# Altium footprint library PCB1.PcbLib: 2 footprints
Each footprint in its own frame and in the unit in brackets; x right, y up, seen from the top. Pads: shape width x height; smd on the part's side, far side on the other; paste and mask are expansions set on the pad; w line width, h text height; cw(c..) or ccw(c..) is an arc to the next point about the centre after c.
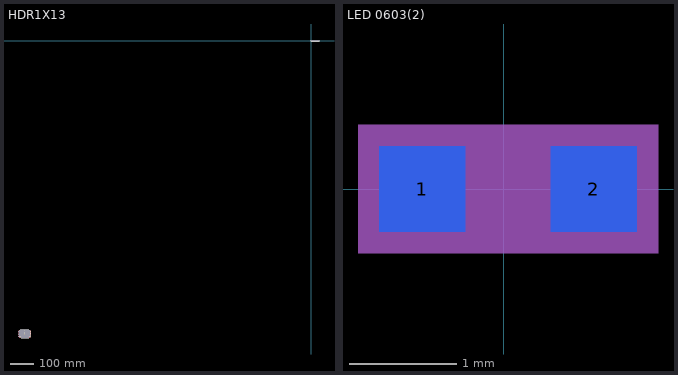
[diagram p0: the footprints below, top view; thin cyan lines are the x and y axes]

## HDR1X13 [mm] "Connector; Header; 13 Position"
pads (327):
  rect 0.8x0.8 smd rot 135: 1(-1232.158,-1241.616) 1(-1232.158,-1247.616) 1(-1232.158,-1238.616) 1(-1232.158,-1235.616) 1(-1232.158,-1232.616) 1(-1232.158,-1229.616) 1(-1232.158,-1226.616) 1(-1232.158,-1223.616) 1(-1232.158,-1244.616) 1(-1229.158,-1241.616) 1(-1229.158,-1247.616) 1(-1229.158,-1238.616) 1(-1229.158,-1235.616) 1(-1229.158,-1232.616) 1(-1229.158,-1229.616) 1(-1229.158,-1226.616) 1(-1229.158,-1223.616) 1(-1229.158,-1244.616) 1(-1226.158,-1241.616) 1(-1226.158,-1247.616) 1(-1226.158,-1238.616) 1(-1226.158,-1235.616) 1(-1226.158,-1232.616) 1(-1226.158,-1229.616) 1(-1226.158,-1226.616) 1(-1226.158,-1223.616) 1(-1226.158,-1244.616) 1(-1223.158,-1241.616) 1(-1223.158,-1247.616) 1(-1223.158,-1238.616) 1(-1223.158,-1235.616) 1(-1223.158,-1232.616) 1(-1223.158,-1229.616) 1(-1223.158,-1226.616) 1(-1223.158,-1223.616) 1(-1223.158,-1244.616) 1(-1220.158,-1241.616) 1(-1220.158,-1247.616) 1(-1220.158,-1238.616) 1(-1220.158,-1235.616) 1(-1220.158,-1232.616) 1(-1220.158,-1229.616) 1(-1220.158,-1226.616) 1(-1220.158,-1223.616) 1(-1220.158,-1244.616) 1(-1217.158,-1241.616) 1(-1217.158,-1247.616) 1(-1217.158,-1238.616) 1(-1217.158,-1235.616) 1(-1217.158,-1232.616) 1(-1217.158,-1229.616) 1(-1217.158,-1226.616) 1(-1217.158,-1223.616) 1(-1217.158,-1244.616) 1(-1214.158,-1241.616) 1(-1214.158,-1247.616) 1(-1214.158,-1238.616) 1(-1214.158,-1235.616) 1(-1214.158,-1232.616) 1(-1214.158,-1229.616) 1(-1214.158,-1226.616) 1(-1214.158,-1223.616) 1(-1214.158,-1244.616) 1(-1211.158,-1241.616) 1(-1211.158,-1247.616) 1(-1211.158,-1238.616) 1(-1211.158,-1235.616) 1(-1211.158,-1232.616) 1(-1211.158,-1229.616) 1(-1211.158,-1226.616) 1(-1211.158,-1223.616) 1(-1211.158,-1244.616) 1(-1208.158,-1241.616) 1(-1208.158,-1247.616) 1(-1208.158,-1238.616) 1(-1208.158,-1235.616) 1(-1208.158,-1232.616) 1(-1208.158,-1229.616) 1(-1208.158,-1226.616) 1(-1208.158,-1223.616) 1(-1208.158,-1244.616) 1(-1205.158,-1241.616) 1(-1205.158,-1247.616) 1(-1205.158,-1238.616) 1(-1205.158,-1235.616) 1(-1205.158,-1232.616) 1(-1205.158,-1229.616) 1(-1205.158,-1226.616) 1(-1205.158,-1223.616) 1(-1205.158,-1244.616) 1(-1202.158,-1241.616) 1(-1202.158,-1247.616) 1(-1202.158,-1238.616) 1(-1202.158,-1235.616) 1(-1202.158,-1232.616) 1(-1202.158,-1229.616) 1(-1202.158,-1226.616) 1(-1202.158,-1223.616) 1(-1202.158,-1244.616) 1(-1199.158,-1241.616) 1(-1199.158,-1247.616) 1(-1199.158,-1238.616) 1(-1199.158,-1235.616) 1(-1199.158,-1232.616) 1(-1199.158,-1229.616) 1(-1199.158,-1226.616) 1(-1199.158,-1223.616) 1(-1199.158,-1244.616) 1(-1196.158,-1241.616) 1(-1196.158,-1247.616) 1(-1196.158,-1238.616) 1(-1196.158,-1235.616) 1(-1196.158,-1232.616) 1(-1196.158,-1229.616) 1(-1196.158,-1226.616) 1(-1196.158,-1223.616) 1(-1196.158,-1244.616) 1(-1193.158,-1241.616) 1(-1193.158,-1247.616) 1(-1193.158,-1238.616) 1(-1193.158,-1235.616) 1(-1193.158,-1232.616) 1(-1193.158,-1229.616) 1(-1193.158,-1226.616) 1(-1193.158,-1223.616) 1(-1193.158,-1244.616) 1(-1190.158,-1241.616) 1(-1190.158,-1247.616) 1(-1190.158,-1238.616) 1(-1190.158,-1235.616) 1(-1190.158,-1232.616) 1(-1190.158,-1229.616) 1(-1190.158,-1226.616) 1(-1190.158,-1223.616) 1(-1190.158,-1244.616) 1(-1187.158,-1241.616) 1(-1187.158,-1247.616) 1(-1187.158,-1238.616) 1(-1187.158,-1235.616) 1(-1187.158,-1232.616) 1(-1187.158,-1229.616) 1(-1187.158,-1226.616) 1(-1187.158,-1223.616) 1(-1187.158,-1244.616) 2(-1233.29,-1236.748) 2(-1233.29,-1248.748) 2(-1233.29,-1245.748) 2(-1233.29,-1242.748) 2(-1233.29,-1233.748) 2(-1233.29,-1230.748) 2(-1233.29,-1227.748) 2(-1233.29,-1224.748) 2(-1233.29,-1239.748) 2(-1230.29,-1236.748) 2(-1230.29,-1248.748) 2(-1230.29,-1245.748) 2(-1230.29,-1242.748) 2(-1230.29,-1233.748) 2(-1230.29,-1230.748) 2(-1230.29,-1227.748) 2(-1230.29,-1224.748) 2(-1230.29,-1239.748) 2(-1227.29,-1236.748) 2(-1227.29,-1248.748) 2(-1227.29,-1245.748) 2(-1227.29,-1242.748) 2(-1227.29,-1233.748) 2(-1227.29,-1230.748) 2(-1227.29,-1227.748) 2(-1227.29,-1224.748) 2(-1227.29,-1239.748) 2(-1224.29,-1236.748) 2(-1224.29,-1248.748) 2(-1224.29,-1245.748) 2(-1224.29,-1242.748) 2(-1224.29,-1233.748) 2(-1224.29,-1230.748) 2(-1224.29,-1227.748) 2(-1224.29,-1224.748) 2(-1224.29,-1239.748) 2(-1221.29,-1236.748) 2(-1221.29,-1248.748) 2(-1221.29,-1245.748) 2(-1221.29,-1242.748) 2(-1221.29,-1233.748) 2(-1221.29,-1230.748) 2(-1221.29,-1227.748) 2(-1221.29,-1224.748) 2(-1221.29,-1239.748) 2(-1218.29,-1236.748) 2(-1218.29,-1248.748) 2(-1218.29,-1245.748) 2(-1218.29,-1242.748) 2(-1218.29,-1233.748) 2(-1218.29,-1230.748) 2(-1218.29,-1227.748) 2(-1218.29,-1224.748) 2(-1218.29,-1239.748) 2(-1215.29,-1236.748) 2(-1215.29,-1248.748) 2(-1215.29,-1245.748) 2(-1215.29,-1242.748) 2(-1215.29,-1233.748) 2(-1215.29,-1230.748) 2(-1215.29,-1227.748) 2(-1215.29,-1224.748) 2(-1215.29,-1239.748) 2(-1212.29,-1236.748) 2(-1212.29,-1248.748) 2(-1212.29,-1245.748) 2(-1212.29,-1242.748) 2(-1212.29,-1233.748) 2(-1212.29,-1230.748) 2(-1212.29,-1227.748) 2(-1212.29,-1224.748) 2(-1212.29,-1239.748) 2(-1209.29,-1236.748) 2(-1209.29,-1248.748) 2(-1209.29,-1245.748) 2(-1209.29,-1242.748) 2(-1209.29,-1233.748) 2(-1209.29,-1230.748) 2(-1209.29,-1227.748) 2(-1209.29,-1224.748) 2(-1209.29,-1239.748) 2(-1206.29,-1236.748) 2(-1206.29,-1248.748) 2(-1206.29,-1245.748) 2(-1206.29,-1242.748) 2(-1206.29,-1233.748) 2(-1206.29,-1230.748) 2(-1206.29,-1227.748) 2(-1206.29,-1224.748) 2(-1206.29,-1239.748) 2(-1203.29,-1236.748) 2(-1203.29,-1248.748) 2(-1203.29,-1245.748) 2(-1203.29,-1242.748) 2(-1203.29,-1233.748) 2(-1203.29,-1230.748) 2(-1203.29,-1227.748) 2(-1203.29,-1224.748) 2(-1203.29,-1239.748) 2(-1200.29,-1236.748) 2(-1200.29,-1248.748) 2(-1200.29,-1245.748) 2(-1200.29,-1242.748) 2(-1200.29,-1233.748) 2(-1200.29,-1230.748) 2(-1200.29,-1227.748) 2(-1200.29,-1224.748) 2(-1200.29,-1239.748) 2(-1197.29,-1236.748) 2(-1197.29,-1248.748) 2(-1197.29,-1245.748) 2(-1197.29,-1242.748) 2(-1197.29,-1233.748) 2(-1197.29,-1230.748) 2(-1197.29,-1227.748) 2(-1197.29,-1224.748) 2(-1197.29,-1239.748) 2(-1194.29,-1236.748) 2(-1194.29,-1248.748) 2(-1194.29,-1245.748) 2(-1194.29,-1242.748) 2(-1194.29,-1233.748) 2(-1194.29,-1230.748) 2(-1194.29,-1227.748) 2(-1194.29,-1224.748) 2(-1194.29,-1239.748) 2(-1191.29,-1236.748) 2(-1191.29,-1248.748) 2(-1191.29,-1245.748) 2(-1191.29,-1242.748) 2(-1191.29,-1233.748) 2(-1191.29,-1230.748) 2(-1191.29,-1227.748) 2(-1191.29,-1224.748) 2(-1191.29,-1239.748) 2(-1188.29,-1236.748) 2(-1188.29,-1248.748) 2(-1188.29,-1245.748) 2(-1188.29,-1242.748) 2(-1188.29,-1233.748) 2(-1188.29,-1230.748) 2(-1188.29,-1227.748) 2(-1188.29,-1224.748) 2(-1188.29,-1239.748)
  rect 1.5x1.5 hole 0.9: 1(-1224.937,-1221.155) 1(-1193.457,-1251.155) 1(0,0)
  round 1.5 hole 0.9: 2(-1222.397,-1221.155) 2(-1195.997,-1251.155) 2(2.54,0) 3(-1219.857,-1221.155) 3(-1198.537,-1251.155) 3(5.08,0) 4(-1217.317,-1221.155) 4(-1201.077,-1251.155) 4(7.62,0) 5(-1214.777,-1221.155) 5(-1203.617,-1251.155) 5(10.16,0) 6(-1212.237,-1221.155) 6(-1206.157,-1251.155) 6(12.7,0) 7(-1209.697,-1221.155) 7(-1208.697,-1251.155) 7(15.24,0) 8(-1211.237,-1251.155) 8(-1207.157,-1221.155) 8(17.78,0) 9(-1213.777,-1251.155) 9(-1204.617,-1221.155) 9(20.32,0) 10(-1216.317,-1251.155) 10(-1202.077,-1221.155) 10(22.86,0) 11(-1218.857,-1251.155) 11(-1199.537,-1221.155) 11(25.4,0) 12(-1221.397,-1251.155) 12(-1196.997,-1221.155) 12(27.94,0) 13(-1223.937,-1251.155) 13(-1194.457,-1221.155) 13(30.48,0)
via -1231.197,-1225.655 diameter 0.5 hole 0.3
via -1231.197,-1228.655 diameter 0.5 hole 0.3
via -1231.197,-1231.655 diameter 0.5 hole 0.3
via -1231.197,-1234.655 diameter 0.5 hole 0.3
via -1231.197,-1237.655 diameter 0.5 hole 0.3
via -1231.197,-1240.655 diameter 0.5 hole 0.3
via -1231.197,-1243.655 diameter 0.5 hole 0.3
via -1231.197,-1246.655 diameter 0.5 hole 0.3
via -1228.197,-1228.655 diameter 0.5 hole 0.3
via -1228.197,-1231.655 diameter 0.5 hole 0.3
via -1228.197,-1234.655 diameter 0.5 hole 0.3
via -1228.197,-1237.655 diameter 0.5 hole 0.3
via -1228.197,-1240.655 diameter 0.5 hole 0.3
via -1228.197,-1243.655 diameter 0.5 hole 0.3
via -1228.197,-1246.655 diameter 0.5 hole 0.3
via -1225.197,-1231.655 diameter 0.5 hole 0.3
via -1225.197,-1234.655 diameter 0.5 hole 0.3
via -1225.197,-1237.655 diameter 0.5 hole 0.3
via -1225.197,-1240.655 diameter 0.5 hole 0.3
via -1225.197,-1243.655 diameter 0.5 hole 0.3
via -1225.197,-1246.655 diameter 0.5 hole 0.3
via -1222.197,-1234.655 diameter 0.5 hole 0.3
via -1222.197,-1237.655 diameter 0.5 hole 0.3
via -1222.197,-1240.655 diameter 0.5 hole 0.3
via -1222.197,-1243.655 diameter 0.5 hole 0.3
via -1222.197,-1246.655 diameter 0.5 hole 0.3
via -1219.197,-1237.655 diameter 0.5 hole 0.3
via -1219.197,-1240.655 diameter 0.5 hole 0.3
via -1219.197,-1243.655 diameter 0.5 hole 0.3
via -1219.197,-1246.655 diameter 0.5 hole 0.3
via -1216.197,-1240.655 diameter 0.5 hole 0.3
via -1216.197,-1243.655 diameter 0.5 hole 0.3
via -1216.197,-1246.655 diameter 0.5 hole 0.3
via -1213.197,-1243.655 diameter 0.5 hole 0.3
via -1213.197,-1246.655 diameter 0.5 hole 0.3
via -1210.197,-1246.655 diameter 0.5 hole 0.3
via -1216.697,-1249.155 diameter 0.5 hole 0.3
via -1210.197,-1243.655 diameter 0.5 hole 0.3
via -1228.697,-1222.155 diameter 0.5 hole 0.3
via -1228.197,-1223.155 diameter 0.5 hole 0.3
via -1228.197,-1226.155 diameter 0.5 hole 0.3
via -1224.572,-1223.655 diameter 0.5 hole 0.3
via -1225.197,-1226.155 diameter 0.5 hole 0.3
via -1225.197,-1229.155 diameter 0.5 hole 0.3
via -1222.197,-1226.155 diameter 0.5 hole 0.3
via -1222.197,-1229.155 diameter 0.5 hole 0.3
via -1222.197,-1232.155 diameter 0.5 hole 0.3
via -1218.697,-1223.655 diameter 0.5 hole 0.3
via -1219.197,-1226.155 diameter 0.5 hole 0.3
via -1219.197,-1229.155 diameter 0.5 hole 0.3
via -1219.197,-1232.155 diameter 0.5 hole 0.3
via -1219.197,-1235.155 diameter 0.5 hole 0.3
via -1215.697,-1223.655 diameter 0.5 hole 0.3
via -1216.197,-1226.155 diameter 0.5 hole 0.3
via -1216.197,-1229.155 diameter 0.5 hole 0.3
via -1216.197,-1232.155 diameter 0.5 hole 0.3
via -1216.197,-1235.155 diameter 0.5 hole 0.3
via -1216.197,-1238.155 diameter 0.5 hole 0.3
via -1212.697,-1223.655 diameter 0.5 hole 0.3
via -1213.197,-1226.155 diameter 0.5 hole 0.3
via -1213.197,-1229.155 diameter 0.5 hole 0.3
via -1213.197,-1232.155 diameter 0.5 hole 0.3
via -1213.197,-1235.155 diameter 0.5 hole 0.3
via -1213.197,-1238.155 diameter 0.5 hole 0.3
via -1213.197,-1241.155 diameter 0.5 hole 0.3
via -1221.697,-1223.655 diameter 0.5 hole 0.3
via -1206.736,-1223.616 diameter 0.5 hole 0.3
via -1209.697,-1226.155 diameter 0.5 hole 0.3
via -1207.197,-1225.655 diameter 0.5 hole 0.3
via -1207.197,-1228.655 diameter 0.5 hole 0.3
via -1207.197,-1231.655 diameter 0.5 hole 0.3
via -1207.197,-1234.655 diameter 0.5 hole 0.3
via -1207.197,-1237.655 diameter 0.5 hole 0.3
via -1207.197,-1240.655 diameter 0.5 hole 0.3
via -1207.197,-1243.655 diameter 0.5 hole 0.3
via -1207.197,-1246.655 diameter 0.5 hole 0.3
via -1204.197,-1222.655 diameter 0.5 hole 0.3
via -1204.197,-1225.655 diameter 0.5 hole 0.3
via -1201.197,-1231.655 diameter 0.5 hole 0.3
via -1201.197,-1234.655 diameter 0.5 hole 0.3
via -1201.197,-1237.655 diameter 0.5 hole 0.3
via -1201.197,-1240.655 diameter 0.5 hole 0.3
via -1201.197,-1243.655 diameter 0.5 hole 0.3
via -1201.197,-1246.655 diameter 0.5 hole 0.3
via -1204.197,-1228.655 diameter 0.5 hole 0.3
via -1204.197,-1231.655 diameter 0.5 hole 0.3
via -1204.197,-1234.655 diameter 0.5 hole 0.3
via -1204.197,-1237.655 diameter 0.5 hole 0.3
via -1204.197,-1240.655 diameter 0.5 hole 0.3
via -1204.197,-1243.655 diameter 0.5 hole 0.3
via -1204.197,-1246.655 diameter 0.5 hole 0.3
via -1201.197,-1222.655 diameter 0.5 hole 0.3
via -1201.197,-1225.655 diameter 0.5 hole 0.3
via -1201.197,-1228.655 diameter 0.5 hole 0.3
via -1198.197,-1234.655 diameter 0.5 hole 0.3
via -1198.197,-1237.655 diameter 0.5 hole 0.3
via -1198.197,-1240.655 diameter 0.5 hole 0.3
via -1198.197,-1243.655 diameter 0.5 hole 0.3
via -1198.197,-1246.655 diameter 0.5 hole 0.3
via -1198.197,-1222.655 diameter 0.5 hole 0.3
via -1198.197,-1225.655 diameter 0.5 hole 0.3
via -1198.197,-1228.655 diameter 0.5 hole 0.3
via -1198.197,-1231.655 diameter 0.5 hole 0.3
via -1195.197,-1237.655 diameter 0.5 hole 0.3
via -1195.197,-1240.655 diameter 0.5 hole 0.3
via -1195.197,-1243.655 diameter 0.5 hole 0.3
via -1195.197,-1246.655 diameter 0.5 hole 0.3
via -1195.197,-1222.655 diameter 0.5 hole 0.3
via -1195.197,-1225.655 diameter 0.5 hole 0.3
via -1195.197,-1228.655 diameter 0.5 hole 0.3
via -1195.197,-1231.655 diameter 0.5 hole 0.3
via -1195.197,-1234.655 diameter 0.5 hole 0.3
via -1192.197,-1240.655 diameter 0.5 hole 0.3
via -1192.197,-1243.655 diameter 0.5 hole 0.3
via -1192.197,-1246.655 diameter 0.5 hole 0.3
via -1192.197,-1222.655 diameter 0.5 hole 0.3
via -1192.197,-1225.655 diameter 0.5 hole 0.3
via -1192.197,-1228.655 diameter 0.5 hole 0.3
via -1192.197,-1231.655 diameter 0.5 hole 0.3
via -1192.197,-1234.655 diameter 0.5 hole 0.3
via -1192.197,-1237.655 diameter 0.5 hole 0.3
via -1189.197,-1243.655 diameter 0.5 hole 0.3
via -1189.197,-1246.655 diameter 0.5 hole 0.3
via -1189.197,-1222.655 diameter 0.5 hole 0.3
via -1189.197,-1225.655 diameter 0.5 hole 0.3
via -1189.197,-1228.655 diameter 0.5 hole 0.3
via -1189.197,-1231.655 diameter 0.5 hole 0.3
via -1189.197,-1234.655 diameter 0.5 hole 0.3
via -1189.197,-1237.655 diameter 0.5 hole 0.3
via -1189.197,-1240.655 diameter 0.5 hole 0.3
via -1186.197,-1246.655 diameter 0.5 hole 0.3
Top Layer:
  lines w0.254: -1233.29,-1248.748 -1230.29,-1248.748 -1227.29,-1248.748 -1224.29,-1248.748 -1221.29,-1248.748 -1218.29,-1248.748 -1216.697,-1248.748 ; -1233.29,-1245.748 -1230.29,-1245.748 -1227.29,-1245.748 -1224.29,-1245.748 -1221.29,-1245.748 -1218.29,-1245.748 -1215.29,-1245.748 -1212.29,-1245.748 -1211.604,-1245.748 -1211.158,-1246.194 -1211.158,-1247.616 -1210.197,-1246.655 ; -1233.29,-1242.748 -1230.29,-1242.748 -1227.29,-1242.748 -1224.29,-1242.748 -1221.29,-1242.748 -1218.29,-1242.748 -1215.29,-1242.748 -1214.197,-1242.748 ; -1233.29,-1239.748 -1230.29,-1239.748 -1227.29,-1239.748 -1224.29,-1239.748 -1221.29,-1239.748 -1218.29,-1239.748 -1217.197,-1239.748 ; -1233.29,-1236.748 -1230.29,-1236.748 -1227.29,-1236.748 -1224.29,-1236.748 -1221.29,-1236.748 -1220.197,-1236.748 ; -1233.29,-1233.748 -1230.29,-1233.748 -1227.29,-1233.748 -1224.29,-1233.748 -1223.197,-1233.748 ; -1233.29,-1230.748 -1230.29,-1230.748 -1227.29,-1230.748 -1226.197,-1230.748 ; -1233.29,-1227.748 -1230.29,-1227.748 -1229.197,-1227.748 ; -1233.29,-1224.748 -1232.197,-1224.748 ; -1232.158,-1247.616 -1231.197,-1246.655 ; -1232.158,-1241.616 -1231.197,-1240.655 ; -1232.158,-1238.616 -1231.197,-1237.655 -1231.197,-1237.655 ; -1232.158,-1232.616 -1231.197,-1231.655 ; -1232.158,-1229.616 -1231.197,-1228.655 ; -1231.197,-1243.655 -1232.158,-1244.616 ; -1231.197,-1234.655 -1232.158,-1235.616 ; -1231.197,-1225.655 -1232.158,-1226.616 -1232.158,-1224.786 -1232.197,-1224.748 ; -1229.158,-1241.616 -1228.197,-1240.655 ; -1229.158,-1238.616 -1228.197,-1237.655 -1228.197,-1237.655 ; -1229.158,-1235.616 -1228.197,-1234.655 ; -1229.158,-1232.616 -1228.197,-1231.655 ; -1229.158,-1226.616 -1228.697,-1226.155 -1228.197,-1226.155 ; -1229.158,-1223.616 -1228.697,-1223.155 -1228.197,-1223.155 ; -1228.697,-1222.155 -1230.697,-1222.155 -1232.158,-1223.616 ; -1228.197,-1246.655 -1229.158,-1247.616 ; -1228.197,-1243.655 -1229.158,-1244.616 ; -1228.197,-1228.655 -1229.158,-1229.616 -1229.197,-1229.577 -1229.197,-1227.748 ; -1226.158,-1247.616 -1225.197,-1246.655 ; -1226.158,-1235.616 -1225.197,-1234.655 ; -1226.158,-1229.616 -1225.697,-1229.155 -1225.197,-1229.155 ; -1226.158,-1226.616 -1225.697,-1226.155 -1225.197,-1226.155 ; -1226.158,-1223.616 -1226.119,-1223.655 -1224.572,-1223.655 ; -1225.197,-1243.655 -1226.158,-1244.616 ; -1225.197,-1240.655 -1226.158,-1241.616 ; -1225.197,-1237.655 -1226.158,-1238.616 ; -1223.158,-1241.616 -1222.197,-1240.655 ; -1223.158,-1232.616 -1222.658,-1232.616 -1222.197,-1232.155 ; -1223.158,-1229.616 -1222.697,-1229.155 -1222.197,-1229.155 ; -1223.158,-1226.616 -1222.658,-1226.616 -1222.197,-1226.155 ; -1223.158,-1223.616 -1223.119,-1223.655 -1221.697,-1223.655 ; -1222.197,-1246.655 -1223.158,-1247.616 ; -1222.197,-1243.655 -1223.158,-1244.616 ; -1222.197,-1237.655 -1223.158,-1238.616 ; -1222.197,-1234.655 -1223.158,-1235.616 ; -1220.158,-1244.616 -1219.197,-1243.655 ; -1220.158,-1241.616 -1219.197,-1240.655 ; -1220.158,-1235.616 -1219.697,-1235.155 -1219.197,-1235.155 ; -1220.158,-1232.616 -1219.697,-1232.155 -1219.197,-1232.155 ; -1220.158,-1229.616 -1219.697,-1229.155 -1219.197,-1229.155 ; -1220.158,-1226.616 -1219.697,-1226.155 -1219.197,-1226.155 ; -1220.158,-1223.616 -1220.119,-1223.655 -1218.697,-1223.655 ; -1219.197,-1246.655 -1220.158,-1247.616 ; -1219.197,-1237.655 -1219.197,-1237.655 -1220.158,-1238.616 -1220.158,-1236.786 -1220.197,-1236.748 ; -1217.158,-1247.616 -1216.197,-1246.655 ; -1217.158,-1238.616 -1216.697,-1238.155 -1216.197,-1238.155 ; -1217.158,-1235.616 -1216.697,-1235.155 -1216.197,-1235.155 ; -1217.158,-1232.616 -1216.697,-1232.155 -1216.197,-1232.155 ; -1217.158,-1229.616 -1216.697,-1229.155 -1216.197,-1229.155 ; -1217.158,-1226.616 -1216.697,-1226.155 -1216.197,-1226.155 ; -1217.158,-1223.616 -1217.119,-1223.655 -1215.697,-1223.655 ; -1216.697,-1249.155 -1216.697,-1248.748 ; -1216.197,-1243.655 -1217.158,-1244.616 ; -1216.197,-1240.655 -1217.158,-1241.616 ; -1214.158,-1247.616 -1213.197,-1246.655 ; -1214.158,-1241.616 -1213.697,-1241.155 -1213.197,-1241.155 ; -1214.158,-1238.616 -1213.697,-1238.155 -1213.197,-1238.155 ; -1214.158,-1235.616 -1213.697,-1235.155 -1213.197,-1235.155 ; -1214.158,-1232.616 -1213.697,-1232.155 -1213.197,-1232.155 ; -1214.158,-1229.616 -1213.697,-1229.155 -1213.197,-1229.155 ; -1214.158,-1226.616 -1213.697,-1226.155 -1213.197,-1226.155 ; -1214.158,-1223.616 -1214.119,-1223.655 -1212.697,-1223.655 ; -1212.29,-1248.748 -1215.29,-1248.748 -1216.697,-1248.748 ; -1212.29,-1242.748 -1214.197,-1242.748 ; -1212.29,-1239.748 -1215.29,-1239.748 -1217.197,-1239.748 ; -1212.29,-1236.748 -1215.29,-1236.748 -1218.29,-1236.748 -1220.197,-1236.748 ; -1212.29,-1233.748 -1215.29,-1233.748 -1218.29,-1233.748 -1221.29,-1233.748 -1223.197,-1233.748 ; -1212.29,-1230.748 -1215.29,-1230.748 -1218.29,-1230.748 -1221.29,-1230.748 -1224.29,-1230.748 -1226.197,-1230.748 ; -1212.29,-1224.748 -1215.29,-1224.748 -1218.29,-1224.748 -1221.29,-1224.748 -1224.29,-1224.748 -1227.29,-1224.748 -1230.29,-1224.748 -1232.197,-1224.748 ; -1212.197,-1227.655 -1212.29,-1227.748 -1215.29,-1227.748 -1218.29,-1227.748 -1221.29,-1227.748 -1224.29,-1227.748 -1227.29,-1227.748 -1229.197,-1227.748 ; -1210.197,-1243.655 -1211.158,-1244.616 ; -1209.697,-1226.155 -1209.697,-1227.155 -1209.29,-1227.562 -1209.29,-1227.748 -1206.29,-1227.748 -1205.197,-1227.748 ; -1209.29,-1248.748 -1206.29,-1248.748 -1203.29,-1248.748 -1200.29,-1248.748 -1197.29,-1248.748 -1194.29,-1248.748 -1191.29,-1248.748 ; -1209.29,-1245.748 -1206.29,-1245.748 -1203.29,-1245.748 -1200.29,-1245.748 -1197.29,-1245.748 -1194.29,-1245.748 -1191.29,-1245.748 -1188.29,-1245.748 -1187.158,-1246.879 -1187.158,-1247.616 ; -1209.29,-1242.748 -1206.29,-1242.748 -1203.29,-1242.748 -1200.29,-1242.748 -1197.29,-1242.748 -1194.29,-1242.748 -1191.29,-1242.748 -1190.197,-1242.748 ; -1209.29,-1239.748 -1206.29,-1239.748 -1203.29,-1239.748 -1200.29,-1239.748 -1197.29,-1239.748 -1194.29,-1239.748 -1193.197,-1239.748 ; -1209.29,-1236.748 -1206.29,-1236.748 -1203.29,-1236.748 -1200.29,-1236.748 -1197.29,-1236.748 -1196.197,-1236.748 ; -1209.29,-1233.748 -1206.29,-1233.748 -1203.29,-1233.748 -1200.29,-1233.748 -1199.197,-1233.748 ; -1209.29,-1230.748 -1206.29,-1230.748 -1203.29,-1230.748 -1202.197,-1230.748 ; -1209.29,-1224.748 -1208.197,-1224.748 ; -1208.158,-1247.616 -1207.197,-1246.655 ; -1208.158,-1241.616 -1207.197,-1240.655 ; -1208.158,-1238.616 -1207.197,-1237.655 -1207.197,-1237.655 ; -1208.158,-1232.616 -1207.197,-1231.655 ; -1208.158,-1229.616 -1207.197,-1228.655 ; -1208.158,-1223.616 -1206.736,-1223.616 ; -1207.197,-1243.655 -1208.158,-1244.616 ; -1207.197,-1234.655 -1208.158,-1235.616 ; -1207.197,-1225.655 -1208.158,-1226.616 -1208.158,-1224.786 -1208.197,-1224.748 ; -1205.158,-1247.616 -1204.197,-1246.655 ; -1205.158,-1244.616 -1204.197,-1243.655 ; -1205.158,-1241.616 -1204.197,-1240.655 ; -1205.158,-1235.616 -1204.197,-1234.655 ; -1205.158,-1232.616 -1204.197,-1231.655 ; -1205.158,-1226.616 -1204.197,-1225.655 ; -1205.158,-1223.616 -1204.197,-1222.655 ; -1204.617,-1221.155 -1205.197,-1221.155 -1206.697,-1222.655 -1210.197,-1222.655 -1211.158,-1223.616 -1211.158,-1226.616 -1211.158,-1229.616 -1211.158,-1232.616 -1211.158,-1235.616 -1211.158,-1238.616 ; -1204.197,-1237.655 -1205.158,-1238.616 ; -1204.197,-1228.655 -1205.158,-1229.616 -1205.158,-1227.786 -1205.197,-1227.748 ; -1202.158,-1244.616 -1201.197,-1243.655 ; -1202.158,-1241.616 -1201.197,-1240.655 ; -1202.158,-1235.616 -1201.197,-1234.655 ; -1202.158,-1229.616 -1201.197,-1228.655 ; -1202.158,-1226.616 -1201.197,-1225.655 ; -1202.158,-1223.616 -1201.197,-1222.655 ; -1201.197,-1246.655 -1202.158,-1247.616 ; -1201.197,-1237.655 -1202.158,-1238.616 ; -1199.158,-1247.616 -1198.197,-1246.655 ; -1199.158,-1241.616 -1198.197,-1240.655 ; -1199.158,-1238.616 -1198.197,-1237.655 -1198.197,-1237.655 ; -1199.158,-1232.616 -1198.197,-1231.655 ; -1199.158,-1229.616 -1198.197,-1228.655 ; -1199.158,-1226.616 -1198.197,-1225.655 ; -1199.158,-1223.616 -1198.197,-1222.655 ; -1198.197,-1243.655 -1199.158,-1244.616 ; -1198.197,-1234.655 -1199.158,-1235.616 ; -1196.158,-1247.616 -1195.197,-1246.655 ; -1196.158,-1244.616 -1195.197,-1243.655 ; -1196.158,-1241.616 -1195.197,-1240.655 ; -1196.158,-1229.616 -1195.197,-1228.655 ; -1196.158,-1226.616 -1195.197,-1225.655 ; -1195.197,-1237.655 -1195.197,-1237.655 -1196.158,-1238.616 -1196.158,-1236.786 -1196.197,-1236.748 ; -1195.197,-1234.655 -1196.158,-1235.616 ; -1195.197,-1231.655 -1196.158,-1232.616 ; -1195.197,-1222.655 -1196.158,-1223.616 ; -1193.457,-1251.155 -1191.697,-1251.155 -1191.29,-1250.748 -1191.29,-1248.748 ; -1193.158,-1247.616 -1192.197,-1246.655 ; -1193.158,-1238.616 -1192.197,-1237.655 ; -1193.158,-1235.616 -1192.197,-1234.655 ; -1193.158,-1232.616 -1192.197,-1231.655 ; -1193.158,-1229.616 -1192.197,-1228.655 ; -1193.158,-1226.616 -1192.197,-1225.655 ; -1193.158,-1223.616 -1192.197,-1222.655 ; -1192.197,-1243.655 -1193.158,-1244.616 ; -1192.197,-1240.655 -1193.158,-1241.616 ; -1190.158,-1247.616 -1189.197,-1246.655 ; -1190.158,-1241.616 -1189.197,-1240.655 ; -1190.158,-1238.616 -1189.197,-1237.655 -1189.197,-1237.655 ; -1190.158,-1229.616 -1189.197,-1228.655 ; -1190.158,-1226.616 -1189.197,-1225.655 ; -1190.158,-1223.616 -1189.197,-1222.655 ; -1189.197,-1243.655 -1190.158,-1244.616 ; -1189.197,-1234.655 -1190.158,-1235.616 ; -1189.197,-1231.655 -1190.158,-1232.616 ; -1188.29,-1242.748 -1190.197,-1242.748 ; -1188.29,-1239.748 -1191.29,-1239.748 -1193.197,-1239.748 ; -1188.29,-1236.748 -1191.29,-1236.748 -1194.29,-1236.748 -1196.197,-1236.748 ; -1188.29,-1233.748 -1191.29,-1233.748 -1194.29,-1233.748 -1197.29,-1233.748 -1199.197,-1233.748 ; -1188.29,-1230.748 -1191.29,-1230.748 -1194.29,-1230.748 -1197.29,-1230.748 -1200.29,-1230.748 -1202.197,-1230.748 ; -1188.29,-1227.748 -1191.29,-1227.748 -1194.29,-1227.748 -1197.29,-1227.748 -1200.29,-1227.748 -1203.29,-1227.748 -1205.197,-1227.748 ; -1188.29,-1224.748 -1191.29,-1224.748 -1194.29,-1224.748 -1197.29,-1224.748 -1200.29,-1224.748 -1203.29,-1224.748 -1206.29,-1224.748 -1208.197,-1224.748 ; -1186.197,-1246.655 -1187.158,-1247.616 ; -1232.158,-1244.616 -1232.158,-1244.616 ; -1232.158,-1235.616 -1232.158,-1235.616 ; -1232.158,-1223.616 -1232.158,-1223.616 ; -1231.197,-1246.655 -1231.197,-1246.655 ; -1231.197,-1231.655 -1231.197,-1231.655 ; -1229.158,-1247.616 -1229.158,-1247.616 ; -1229.158,-1244.616 -1229.158,-1244.616 ; -1228.197,-1234.655 -1228.197,-1234.655 ; -1228.197,-1231.655 -1228.197,-1231.655 ; -1226.197,-1230.748 -1226.158,-1230.786 -1226.158,-1232.616 -1225.197,-1231.655 ; -1226.158,-1244.616 -1226.158,-1244.616 ; -1226.158,-1241.616 -1226.158,-1241.616 ; -1226.158,-1238.616 -1226.158,-1238.616 ; -1225.197,-1231.655 -1225.197,-1231.655 ; -1223.197,-1233.748 -1223.158,-1233.786 -1223.158,-1235.616 ; -1223.158,-1247.616 -1223.158,-1247.616 ; -1223.158,-1244.616 -1223.158,-1244.616 ; -1223.158,-1238.616 -1223.158,-1238.616 ; -1223.158,-1235.616 -1223.158,-1235.616 ; -1220.158,-1247.616 -1220.158,-1247.616 ; -1219.197,-1243.655 -1219.197,-1243.655 ; -1217.197,-1239.748 -1217.158,-1239.786 -1217.158,-1241.616 ; -1217.158,-1244.616 -1217.158,-1244.616 ; -1217.158,-1241.616 -1217.158,-1241.616 ; -1214.197,-1242.748 -1214.158,-1242.786 -1214.158,-1244.616 -1213.197,-1243.655 ; -1213.197,-1246.655 -1213.197,-1246.655 ; -1213.197,-1243.655 -1213.197,-1243.655 ; -1211.158,-1244.616 -1211.158,-1244.616 ; -1211.158,-1244.616 -1211.158,-1241.616 ; -1211.158,-1241.616 -1211.158,-1241.616 ; -1211.158,-1241.616 -1211.158,-1238.616 ; -1211.158,-1238.616 -1211.158,-1238.616 ; -1210.197,-1246.655 -1210.197,-1246.655 ; -1208.158,-1244.616 -1208.158,-1244.616 ; -1208.158,-1235.616 -1208.158,-1235.616 ; -1207.197,-1246.655 -1207.197,-1246.655 ; -1207.197,-1231.655 -1207.197,-1231.655 ; -1205.158,-1238.616 -1205.158,-1238.616 ; -1204.197,-1246.655 -1204.197,-1246.655 ; -1204.197,-1243.655 -1204.197,-1243.655 ; -1204.197,-1234.655 -1204.197,-1234.655 ; -1204.197,-1231.655 -1204.197,-1231.655 ; -1204.197,-1222.655 -1204.197,-1222.655 ; -1202.197,-1230.748 -1202.158,-1230.786 -1202.158,-1232.616 -1201.197,-1231.655 ; -1202.158,-1247.616 -1202.158,-1247.616 ; -1202.158,-1238.616 -1202.158,-1238.616 ; -1201.197,-1243.655 -1201.197,-1243.655 ; -1201.197,-1234.655 -1201.197,-1234.655 ; -1201.197,-1231.655 -1201.197,-1231.655 ; -1201.197,-1222.655 -1201.197,-1222.655 ; -1199.197,-1233.748 -1199.158,-1233.786 -1199.158,-1235.616 ; -1199.158,-1244.616 -1199.158,-1244.616 ; -1199.158,-1235.616 -1199.158,-1235.616 ; -1198.197,-1246.655 -1198.197,-1246.655 ; -1198.197,-1231.655 -1198.197,-1231.655 ; -1198.197,-1222.655 -1198.197,-1222.655 ; -1196.158,-1235.616 -1196.158,-1235.616 ; -1196.158,-1232.616 -1196.158,-1232.616 ; -1196.158,-1223.616 -1196.158,-1223.616 ; -1195.197,-1246.655 -1195.197,-1246.655 ; -1195.197,-1243.655 -1195.197,-1243.655 ; -1193.197,-1239.748 -1193.158,-1239.786 -1193.158,-1241.616 ; -1193.158,-1244.616 -1193.158,-1244.616 ; -1193.158,-1241.616 -1193.158,-1241.616 ; -1192.197,-1237.655 -1192.197,-1237.655 ; -1192.197,-1228.655 -1192.197,-1228.655 ; -1192.197,-1225.655 -1192.197,-1225.655 ; -1191.29,-1248.748 -1188.29,-1248.748 -1186.79,-1248.748 -1185.668,-1247.626 -1185.668,-1246.436 -1185.978,-1246.126 -1186.226,-1246.126 -1186.697,-1245.655 -1186.697,-1245.077 -1187.158,-1244.616 ; -1190.197,-1242.748 -1190.158,-1242.786 -1190.158,-1244.616 ; -1190.158,-1244.616 -1190.158,-1244.616 ; -1190.158,-1235.616 -1190.158,-1235.616 ; -1190.158,-1232.616 -1190.158,-1232.616 ; -1189.197,-1246.655 -1189.197,-1246.655 ; -1189.197,-1222.655 -1189.197,-1222.655 ; -1187.158,-1247.616 -1187.158,-1247.616 ; -1187.158,-1244.616 -1187.158,-1241.616 ; -1187.158,-1244.616 -1187.158,-1244.616 ; -1187.158,-1241.616 -1187.158,-1238.616 -1187.158,-1235.616 -1187.158,-1232.616 -1187.158,-1229.616 ; -1187.158,-1241.616 -1187.158,-1241.616 ; -1187.158,-1229.616 -1187.158,-1229.616 ; -1187.158,-1229.616 -1187.158,-1223.616 ; -1187.158,-1223.616 -1187.158,-1223.616
Bottom Layer:
  lines w0.254: -1231.197,-1246.655 -1231.197,-1243.655 -1231.197,-1240.655 -1231.197,-1237.655 -1231.197,-1234.655 -1231.197,-1231.655 -1231.197,-1228.655 -1231.197,-1225.655 -1231.197,-1223.155 -1229.197,-1221.155 -1224.937,-1221.155 ; -1228.197,-1246.655 -1228.197,-1243.655 -1228.197,-1240.655 -1228.197,-1237.655 -1228.197,-1234.655 -1228.197,-1231.655 -1228.197,-1228.655 -1230.197,-1226.655 -1230.197,-1226.155 -1229.197,-1225.155 -1229.197,-1224.655 -1230.197,-1223.655 -1230.197,-1222.873 -1229.508,-1222.184 -1223.426,-1222.184 -1222.397,-1221.155 ; -1228.197,-1226.155 -1227.197,-1226.155 ; -1228.197,-1223.155 -1227.847,-1223.155 -1227.597,-1222.905 ; -1225.197,-1246.655 -1225.197,-1243.655 -1225.197,-1240.655 -1225.197,-1237.655 -1225.197,-1234.655 ; -1225.197,-1229.155 -1224.197,-1229.155 ; -1225.197,-1226.155 -1224.197,-1226.155 ; -1224.572,-1223.655 -1224.347,-1223.43 ; -1222.197,-1246.655 -1222.197,-1243.655 -1222.197,-1240.655 -1222.197,-1237.655 -1222.197,-1234.655 -1224.197,-1232.655 -1224.197,-1232.155 -1223.197,-1231.155 -1223.197,-1230.655 -1224.197,-1229.655 -1224.197,-1229.155 ; -1222.197,-1229.155 -1221.197,-1229.155 ; -1221.697,-1223.655 -1221.197,-1223.655 ; -1219.857,-1221.155 -1220.982,-1222.28 -1222.804,-1222.28 -1223.216,-1222.692 -1227.384,-1222.692 -1227.597,-1222.905 ; -1219.197,-1246.655 -1219.197,-1243.655 -1219.197,-1240.655 -1219.197,-1237.655 -1221.197,-1235.655 -1221.197,-1235.155 -1220.197,-1234.155 -1220.197,-1233.655 -1221.197,-1232.655 -1221.197,-1232.155 ; -1219.197,-1235.155 -1218.197,-1235.155 ; -1219.197,-1232.155 -1218.197,-1232.155 ; -1219.197,-1229.155 -1218.197,-1229.155 ; -1219.197,-1226.155 -1218.197,-1226.155 ; -1218.697,-1223.655 -1218.657,-1223.695 -1218.237,-1223.695 -1217.276,-1224.655 -1217.276,-1225.076 -1218.197,-1225.997 -1218.197,-1226.155 ; -1218.487,-1223.445 -1218.487,-1223.163 -1216.987,-1223.163 -1215.979,-1222.155 -1215.232,-1222.155 -1215.203,-1222.184 -1213.266,-1222.184 -1212.237,-1221.155 ; -1217.317,-1221.155 -1218.197,-1221.155 -1219.83,-1222.788 -1222.33,-1222.788 -1222.742,-1223.2 -1224.117,-1223.2 -1224.347,-1223.43 ; -1216.697,-1249.155 -1216.197,-1249.655 -1214.697,-1249.655 -1213.697,-1248.655 -1212.197,-1248.655 -1210.726,-1247.184 -1209.697,-1247.184 -1209.697,-1247.155 -1209.197,-1246.655 -1209.197,-1244.655 -1210.197,-1243.655 ; -1216.197,-1246.655 -1216.197,-1243.655 -1216.197,-1240.655 -1218.197,-1238.655 ; -1216.197,-1238.155 -1215.197,-1238.155 ; -1216.197,-1235.155 -1215.197,-1235.155 ; -1216.197,-1232.155 -1215.197,-1232.155 ; -1216.197,-1226.155 -1215.197,-1226.155 ; -1215.697,-1223.655 -1215.197,-1223.655 ; -1214.777,-1221.155 -1215.697,-1221.155 -1217.197,-1222.655 -1218.697,-1222.655 -1219.447,-1223.405 -1220.697,-1223.405 -1220.806,-1223.296 -1221.088,-1223.296 -1221.197,-1223.405 -1221.197,-1223.655 ; -1213.777,-1251.155 -1212.277,-1249.655 -1210.455,-1249.655 -1210.447,-1249.647 -1210.189,-1249.647 -1207.197,-1246.655 -1207.197,-1243.655 -1207.197,-1240.655 -1207.197,-1237.655 -1207.197,-1234.655 -1207.197,-1231.655 -1207.197,-1228.655 -1207.197,-1225.655 ; -1213.197,-1246.655 -1213.197,-1243.655 -1215.197,-1241.655 -1215.197,-1241.155 -1214.197,-1240.155 -1214.197,-1239.655 -1215.197,-1238.655 -1215.197,-1238.155 ; -1213.197,-1241.155 -1212.197,-1241.155 ; -1213.197,-1235.155 -1212.197,-1235.155 ; -1213.197,-1232.155 -1212.197,-1232.155 ; -1213.197,-1226.155 -1212.197,-1226.155 ; -1212.697,-1223.655 -1212.197,-1223.655 ; -1211.237,-1251.155 -1210.237,-1250.155 -1209.152,-1250.155 -1208.644,-1249.647 -1207.189,-1249.647 -1204.197,-1246.655 -1204.197,-1243.655 -1204.197,-1240.655 -1204.197,-1237.655 -1204.197,-1234.655 -1204.197,-1231.655 -1204.197,-1228.655 ; -1210.197,-1246.655 -1212.197,-1244.655 -1212.197,-1244.155 -1211.197,-1243.155 -1211.197,-1242.655 -1212.197,-1241.655 -1212.197,-1241.155 ; -1209.697,-1226.155 -1209.275,-1226.155 -1206.736,-1223.616 ; -1209.697,-1221.155 -1210.726,-1222.184 -1212.226,-1222.184 -1213.197,-1223.155 -1215.197,-1223.155 -1215.197,-1223.655 ; -1208.697,-1251.155 -1207.697,-1250.155 -1206.612,-1250.155 -1205.112,-1248.655 -1203.415,-1248.655 -1203.407,-1248.647 -1203.189,-1248.647 -1201.197,-1246.655 -1201.197,-1243.655 -1201.197,-1240.655 -1201.197,-1237.655 -1201.197,-1234.655 -1201.197,-1231.655 -1203.197,-1229.655 -1203.197,-1229.155 -1202.197,-1228.155 -1202.197,-1227.655 -1204.197,-1225.655 -1204.197,-1222.655 ; -1207.157,-1221.155 -1208.694,-1222.692 -1211.734,-1222.692 -1212.197,-1223.155 -1212.197,-1223.655 ; -1206.157,-1251.155 -1204.657,-1249.655 -1203.697,-1249.655 -1203.197,-1249.155 -1202.335,-1249.155 -1202.327,-1249.147 -1200.689,-1249.147 -1198.197,-1246.655 -1198.197,-1243.655 -1198.197,-1240.655 -1198.197,-1237.655 -1198.197,-1234.655 -1200.197,-1232.655 -1200.197,-1232.155 -1199.197,-1231.155 -1199.197,-1230.655 -1201.197,-1228.655 -1201.197,-1225.655 -1201.197,-1222.655 ; -1203.617,-1251.155 -1202.117,-1249.655 -1200.295,-1249.655 -1199.779,-1249.139 -1198.181,-1249.139 -1195.697,-1246.655 -1195.197,-1246.655 -1195.197,-1243.655 -1195.197,-1240.655 -1195.197,-1237.655 -1197.197,-1235.655 -1197.197,-1235.155 -1196.197,-1234.155 -1196.197,-1233.655 -1198.197,-1231.655 -1198.197,-1228.655 -1198.197,-1225.655 -1198.197,-1222.655 ; -1201.077,-1251.155 -1199.569,-1249.647 -1196.689,-1249.647 -1193.697,-1246.655 -1192.197,-1246.655 -1192.197,-1243.655 -1192.197,-1240.655 ; -1198.537,-1251.155 -1197.537,-1250.155 -1196.452,-1250.155 -1195.444,-1249.147 -1192.689,-1249.147 -1190.197,-1246.655 -1189.197,-1246.655 -1189.197,-1243.655 -1191.197,-1241.655 -1191.197,-1241.155 -1190.197,-1240.155 -1190.197,-1239.655 -1192.197,-1237.655 -1192.197,-1234.655 -1192.197,-1231.655 -1192.197,-1228.655 -1192.197,-1225.655 -1192.197,-1222.655 ; -1195.997,-1251.155 -1195.997,-1250.455 -1195.197,-1249.655 -1190.697,-1249.655 -1187.697,-1246.655 -1186.197,-1246.655 -1188.197,-1244.655 -1188.197,-1244.155 -1187.197,-1243.155 -1187.197,-1242.655 -1189.197,-1240.655 -1189.197,-1237.655 -1189.197,-1234.655 -1189.197,-1231.655 -1189.197,-1228.655 -1189.197,-1225.655 -1189.197,-1222.655 ; -1195.197,-1222.655 -1195.197,-1225.655 -1195.197,-1228.655 -1195.197,-1231.655 -1195.197,-1234.655 -1193.197,-1236.655 -1193.197,-1237.155 -1194.197,-1238.155 -1194.197,-1238.655 -1192.197,-1240.655 ; -1227.597,-1222.905 -1227.597,-1223.355 -1226.322,-1224.63 -1226.322,-1225.28 -1227.197,-1226.155 ; -1227.197,-1226.155 -1227.197,-1226.655 -1226.197,-1227.655 -1226.197,-1228.155 -1227.197,-1229.155 -1227.197,-1229.655 -1225.197,-1231.655 -1225.197,-1234.655 ; -1225.197,-1234.655 -1225.197,-1234.655 ; -1224.347,-1223.43 -1223.297,-1224.48 -1223.297,-1225.255 -1224.197,-1226.155 ; -1224.197,-1229.155 -1223.197,-1228.155 -1223.197,-1227.655 -1224.197,-1226.655 -1224.197,-1226.155 ; -1222.197,-1232.155 -1221.197,-1232.155 ; -1222.197,-1232.155 -1222.197,-1232.155 ; -1222.197,-1226.155 -1221.197,-1226.155 ; -1222.197,-1226.155 -1222.197,-1226.155 ; -1221.197,-1232.155 -1220.197,-1231.155 -1220.197,-1230.655 -1221.197,-1229.655 -1221.197,-1229.155 ; -1221.197,-1229.155 -1220.197,-1228.155 -1220.197,-1227.655 -1221.197,-1226.655 -1221.197,-1226.155 ; -1221.197,-1226.155 -1220.197,-1225.155 -1220.197,-1224.655 -1221.197,-1223.655 ; -1218.197,-1238.655 -1218.197,-1238.155 -1217.197,-1237.155 -1217.197,-1236.655 -1218.197,-1235.655 -1218.197,-1235.155 ; -1218.197,-1238.655 -1218.197,-1238.655 ; -1218.197,-1235.155 -1217.197,-1234.155 -1217.197,-1233.655 -1218.197,-1232.655 -1218.197,-1232.155 ; -1218.197,-1232.155 -1217.197,-1231.155 -1217.197,-1230.655 -1218.197,-1229.655 -1218.197,-1229.155 ; -1218.197,-1229.155 -1217.197,-1228.155 -1217.197,-1227.655 -1218.197,-1226.655 -1218.197,-1226.155 ; -1216.197,-1229.155 -1215.197,-1229.155 ; -1216.197,-1229.155 -1216.197,-1229.155 ; -1215.197,-1238.155 -1214.197,-1237.155 -1214.197,-1236.655 -1215.197,-1235.655 -1215.197,-1235.155 ; -1215.197,-1235.155 -1214.197,-1234.155 -1214.197,-1233.655 -1215.197,-1232.655 -1215.197,-1232.155 ; -1215.197,-1232.155 -1214.197,-1231.155 -1214.197,-1230.655 -1215.197,-1229.655 -1215.197,-1229.155 ; -1215.197,-1229.155 -1214.197,-1228.155 -1214.197,-1227.655 -1215.197,-1226.655 -1215.197,-1226.155 ; -1215.197,-1226.155 -1214.197,-1225.155 -1214.197,-1224.655 -1215.197,-1223.655 ; -1213.197,-1238.155 -1212.197,-1238.155 ; -1213.197,-1238.155 -1213.197,-1238.155 ; -1213.197,-1229.155 -1212.197,-1229.155 ; -1213.197,-1229.155 -1213.197,-1229.155 ; -1212.197,-1241.155 -1211.197,-1240.155 -1211.197,-1239.655 -1212.197,-1238.655 -1212.197,-1238.155 ; -1212.197,-1238.155 -1211.197,-1237.155 -1211.197,-1236.655 -1212.197,-1235.655 -1212.197,-1235.155 ; -1212.197,-1235.155 -1211.197,-1234.155 -1211.197,-1233.655 -1211.697,-1233.155 ; -1212.197,-1232.155 -1211.197,-1231.155 -1211.197,-1230.655 -1212.197,-1229.655 -1212.197,-1229.155 ; -1212.197,-1232.155 -1212.197,-1232.655 -1211.697,-1233.155 ; -1212.197,-1229.155 -1211.197,-1228.155 -1211.197,-1227.655 -1212.197,-1226.655 -1212.197,-1226.155 ; -1212.197,-1226.155 -1211.197,-1225.155 -1211.197,-1224.655 -1212.197,-1223.655 ; -1211.697,-1233.155 -1211.697,-1233.155 ; -1192.197,-1240.655 -1192.197,-1240.655
Top Overlay:
  drawing of 735 lines, arcs and shapes, not listed
Mechanical 1:
  drawing of 576 lines, arcs and shapes, not listed
Mechanical 4:
  drawing of 144 lines, arcs and shapes, not listed

## LED 0603(2) [mm]
pads (2):
  rect 0.8x0.8 smd far side: 1(-0.762,0) 2(0.838,0)
Bottom Overlay:
  lines w0.127: -0.162,-0.4 0.238,-0.4 ; -0.162,0.4 0.238,0.4 ; -0.162,-0.25 -0.162,0.25 0.238,0 -0.162,-0.25
Mechanical 1:
  lines w0.127: -0.762,-0.4 -0.762,0.4 0.838,0.4 0.838,-0.4 -0.762,-0.4
Mechanical 4:
  region: 1.438,0.6 -1.362,0.6 -1.362,-0.6 1.438,-0.6